# Altium schematic symbol library ESP32S3_supermini.SchLib: 1 symbol
Pins are listed as number, name and electrical type; pins without a type are passive.

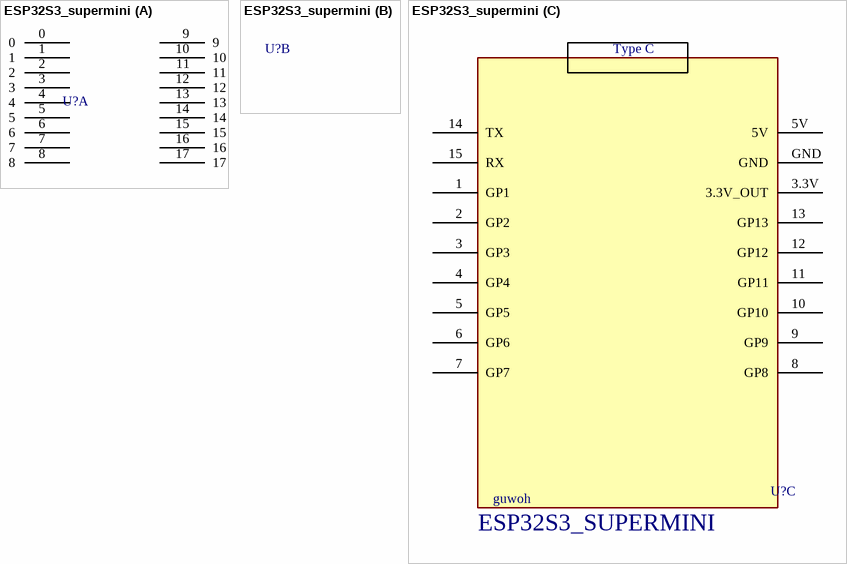
[diagram p0: symbol ESP32S3_supermini]

## ESP32S3_supermini
designator U?
footprint PCBComponent_1
part A pins: 0, 1, 2, 3, 4, 5, 6, 7, 8, 9, 10, 11, 12, 13, 14, 15, 16, 17
part C pins: 1 GP1, 2 GP2, 3 GP3, 3.3V 3.3V_OUT, 4 GP4, 5 GP5, 5V, 6 GP6, 7 GP7, 8 GP8, 9 GP9, 10 GP10, 11 GP11, 12 GP12, 13 GP13, 14 TX, 15 RX, GND
part C text: Type C; guwoh; ESP32S3_SUPERMINI